# Altium footprint library IntergratedModule.PcbLib: 4 footprints
Each footprint in its own frame and in the unit in brackets; x right, y up, seen from the top. Pads: shape width x height; smd on the part's side, far side on the other; paste and mask are expansions set on the pad; w line width, h text height; cw(c..) or ccw(c..) is an arc to the next point about the centre after c.
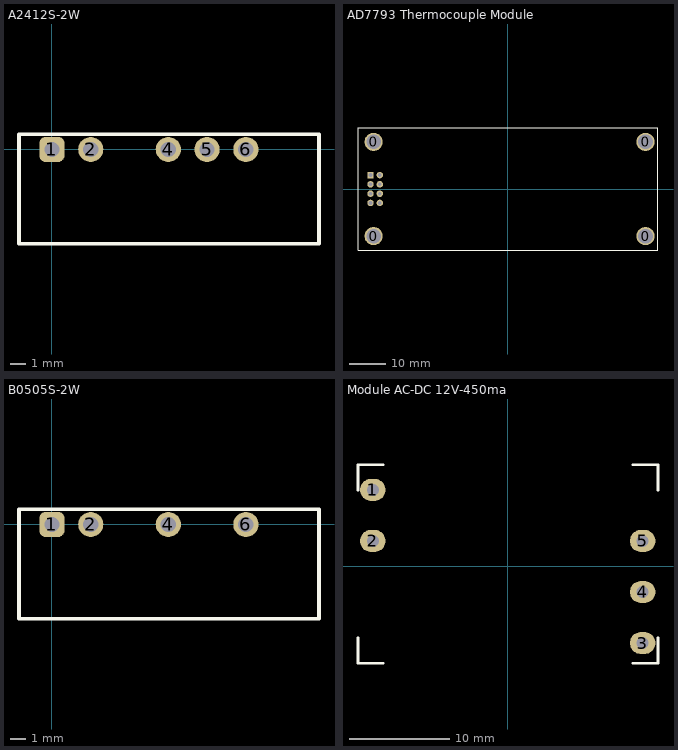
[diagram p0: the footprints below, top view; thin cyan lines are the x and y axes]

## A2412S-2W [mm]
height 10
pads (5):
  rrect50% 1.65x1.65 hole 1: 1(0,0)
  round 1.65 hole 1: 2(2.54,0) 4(7.62,0) 5(10.16,0) 6(12.7,0)
Top Overlay:
  lines w0.254: -2.159,-6.18 -2.159,1 17.491,1 17.491,-6.18 -2.159,-6.18
3D body "User Library-IB1205S-2W.STEP": height 10, standoff -2.5, extent -2.18,-6.096 17.42,0.914

## AD7793 Thermocouple Module [mm]
pads (12):
  round 5 hole 4: 0(-36.825,-12.9) 0(-36.825,12.9) 0(37.675,-12.9) 0(37.675,12.9)
  rect 1.778x1.778 hole 1.016: 1(-37.675,3.81)
  round 1.778 hole 1.016: 2(-35.135,3.81) 3(-37.675,1.27) 4(-35.135,1.27) 5(-37.675,-1.27) 6(-35.135,-1.27) 7(-37.675,-3.81) 8(-35.135,-3.81)
Top Overlay:
  lines w0.254: -41.1,-16.75 41.1,-16.75 41.1,16.75 -41.1,16.75 -41.1,-16.75
3D body: height 12, standoff 10, extent -41.021,-16.764 41.021,16.764

## B0505S-2W [mm] "5V-5V Isolate 2W"
height 10
pads (4):
  rrect50% 1.65x1.65 hole 1: 1(0,0)
  round 1.65 hole 1: 2(2.54,0) 4(7.62,0) 6(12.7,0)
Top Overlay:
  lines w0.254: -2.159,-6.18 17.491,-6.18 17.491,1 -2.159,1 -2.159,-6.18
3D body "User Library-IB1205S-2W.STEP": height 10, standoff -2.5, extent -2.18,-6.096 17.42,0.914

## Module AC-DC 12V-450ma [mm]
pads (5):
  oval 2.54x2.2 hole 1.2: 1(-13.425,7.62) 2(-13.425,2.54) 3(13.425,-7.62) 4(13.425,-2.54) 5(13.425,2.54)
Top Overlay:
  lines w0.254: -14.896,-7.112 -14.896,-9.63 -12.378,-9.63 ; -14.896,7.602 -14.896,10.12 -12.378,10.12 ; 12.431,-9.63 14.949,-9.63 14.949,-7.112 ; 12.431,10.12 14.949,10.12 14.949,7.602
3D body "ACDC_5V_3W.STEP": height 19.53, standoff 5.03, extent -14.873,-10.414 15.127,10.586